# EAGLE library part DEVICE_OF_ATMEGA8L (library ATMega8L)
Device of ATMega8L_200250330064
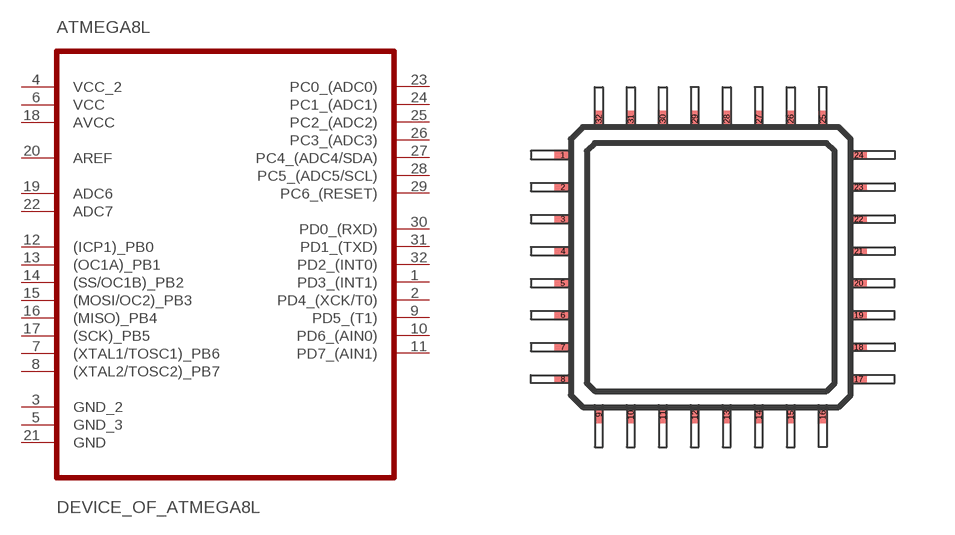
[diagram p0: symbol with the pads of FOOTPRINT_OF_ATMEGA8L; footprint FOOTPRINT_OF_ATMEGA8L]

Designator prefix ATMEGA8L

## DEVICE_OF_ATMEGA8L  [FOOTPRINT_OF_ATMEGA8L]
1  PD3_(INT1)
2  PD4_(XCK/T0)
3  GND_2  pas
4  VCC_2  pwr
5  GND_3  pas
6  VCC  pwr
7  (XTAL1/TOSC1)_PB6  in
8  (XTAL2/TOSC2)_PB7  out
9  PD5_(T1)
10  PD6_(AIN0)
11  PD7_(AIN1)
12  (ICP1)_PB0
13  (OC1A)_PB1
14  (SS/OC1B)_PB2
15  (MOSI/OC2)_PB3
16  (MISO)_PB4
17  (SCK)_PB5
18  AVCC  pwr
19  ADC6  in
20  AREF  in
21  GND  pas
22  ADC7  in
23  PC0_(ADC0)
24  PC1_(ADC1)
25  PC2_(ADC2)
26  PC3_(ADC3)
27  PC4_(ADC4/SDA)
28  PC5_(ADC5/SCL)
29  PC6_(RESET)
30  PD0_(RXD)
31  PD1_(TXD)
32  PD2_(INT0)

## Footprint FOOTPRINT_OF_ATMEGA8L (pad centres in mm)
Footprint of ATMega8L_200250330064
smd 0.406 x 0.203: 1 -0.2,6.3; 2 -0.2,5.5; 3 -0.2,4.7; 4 -0.2,3.9; 5 -0.2,3.1; 6 -0.2,2.3; 7 -0.2,1.5; 8 -0.2,0.7; 17 7.2,0.7; 18 7.2,1.5; 19 7.2,2.3; 20 7.2,3.1; 21 7.2,3.9; 22 7.2,4.7; 23 7.2,5.5; 24 7.2,6.3
smd 0.203 x 0.406: 9 0.7,-0.2; 10 1.5,-0.2; 11 2.3,-0.2; 12 3.1,-0.2; 13 3.9,-0.2; 14 4.7,-0.2; 15 5.5,-0.2; 16 6.3,-0.2; 25 6.3,7.2; 26 5.5,7.2; 27 4.7,7.2; 28 3.9,7.2; 29 3.1,7.2; 30 2.3,7.2; 31 1.5,7.2; 32 0.7,7.2